# EAGLE library part KNIVES_LINK (library ElectricNoodleBox)
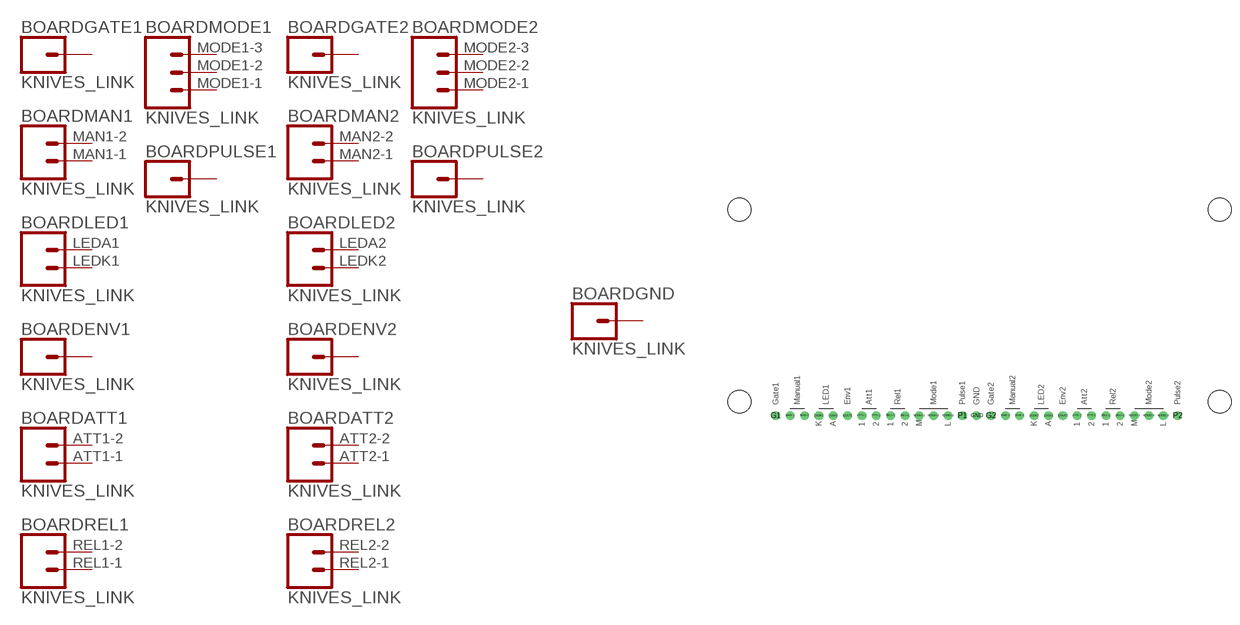
[diagram p21: symbol with the pads of KNIVES; footprint KNIVES]

Designator prefix BOARD; gates GATE1=CONN_01 MAN1=CONN_02 LED1=CONN_02 ENV1=CONN_01 ATT1=CONN_02 REL1=CONN_02 MODE1=CONN_03 PULSE1=CONN_01 GATE2=CONN_01 MAN2=CONN_02 LED2=CONN_02 ENV2=CONN_01 ATT2=CONN_02 REL2=CONN_02 MODE2=CONN_03 PULSE2=CONN_01 GND=CONN_01

## KNIVES_LINK  [KNIVES]
ATT1-1  ATT1:1  pas
ATT1-2  ATT1:2  pas
ATT2-1  ATT2:1  pas
ATT2-2  ATT2:2  pas
EOUT1  ENV1:1  pas
EOUT2  ENV2:1  pas
G1  GATE1:1  pas
G2  GATE2:1  pas
GND  GND:1  pas
LEDA1  LED1:2  pas
LEDA2  LED2:2  pas
LEDK1  LED1:1  pas
LEDK2  LED2:1  pas
MAN1-1  MAN1:1  pas
MAN1-2  MAN1:2  pas
MAN2-1  MAN2:1  pas
MAN2-2  MAN2:2  pas
MODE1-1  MODE1:1  pas
MODE1-2  MODE1:2  pas
MODE1-3  MODE1:3  pas
MODE2-1  MODE2:1  pas
MODE2-2  MODE2:2  pas
MODE2-3  MODE2:3  pas
P1  PULSE1:1  pas
P2  PULSE2:1  pas
REL1-1  REL1:1  pas
REL1-2  REL1:2  pas
REL2-1  REL2:1  pas
REL2-2  REL2:2  pas

## Footprint KNIVES (pad centres in mm)
drill 1.016: ATT1-1 26.67,2.54; ATT1-2 29.21,2.54; ATT2-1 64.77,2.54; ATT2-2 67.31,2.54; EOUT1 24.13,2.54; EOUT2 62.23,2.54; G1 11.43,2.54; G2 49.53,2.54; GND 46.99,2.54; LEDA1 21.59,2.54; LEDA2 59.69,2.54; LEDK1 19.05,2.54; LEDK2 57.15,2.54; MAN1-1 13.97,2.54; MAN1-2 16.51,2.54; MAN2-1 52.07,2.54; MAN2-2 54.61,2.54; MODE1-1 36.83,2.54; MODE1-2 39.37,2.54; MODE1-3 41.91,2.54; MODE2-1 74.93,2.54; MODE2-2 77.47,2.54; MODE2-3 80.01,2.54; P1 44.45,2.54; P2 82.55,2.54; REL1-1 31.75,2.54; REL1-2 34.29,2.54; REL2-1 69.85,2.54; REL2-2 72.39,2.54
hole 4 at 5,5
hole 4 at 90,5
hole 4 at 90,39
hole 4 at 5,39